# EAGLE library part MIC5021 (library FSAE Electric (Alexander Ray's conflicted copy 2016-04-02))
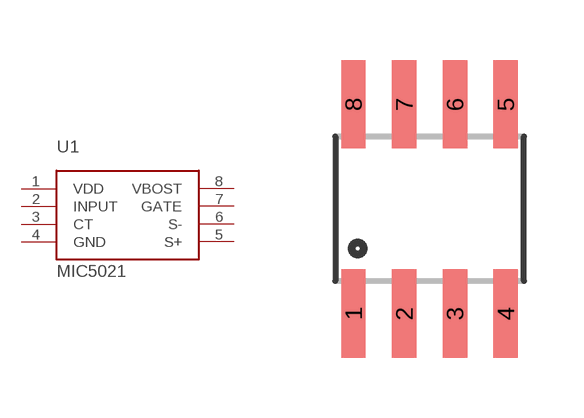
[diagram p63: symbol with the pads of SO-8; footprint SO-8]

Designator prefix U1

## MIC5021 (PARTNO: MIC5014YM-TR)  [SO-8]
1  VDD
2  INPUT
3  CT
4  GND
5  S+
6  S-
7  GATE
8  VBOST

## Footprint SO-8 (pad centres in mm)
smd 0.61 x 2.21: 1 -1.905,-2.616; 2 -0.635,-2.616; 3 0.635,-2.616; 4 1.905,-2.616; 5 1.905,2.616; 6 0.635,2.616; 7 -0.635,2.616; 8 -1.905,2.616